# Altium schematic symbol library TI PGA2310.SchLib: 2 symbols
Pins are listed as number, name and electrical type; pins without a type are passive.

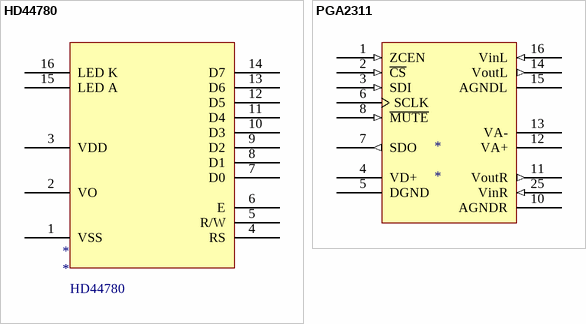
[diagram p0: symbols HD44780 to PGA2311]

## HD44780
designator *
footprint HDR1X16
pins: 1 VSS (power), 2 VO, 3 VDD (power), 4 RS, 5 R/W, 6 E, 7 D0, 8 D1, 9 D2, 10 D3, 11 D4, 12 D5, 13 D6, 14 D7, 15 LED A, 16 LED K

## PGA2311
designator *
footprint SOIC16 (SSOP; 16 Leads; Body Width 5.3 mm; Pitch 0.65 mm)
footprint JE16 (DIP; 16 Leads; Row Spacing 7.62 mm; Pitch 2.54 mm)
pins: 1 ZCEN (in), 2 ~{CS} (in), 3 SDI (in), 4 VD+ (power), 5 DGND (power), 6 SCLK, 7 SDO (out), 8 ~{MUTE} (in), 10 AGNDR (power), 11 VoutR (out), 12 VA+ (power), 13 VA- (power), 14 VoutL (out), 15 AGNDL (power), 16 VinL (in), 25 VinR (in)